# Altium schematic symbol library F.Schlib: 1 symbol
Pins are listed as number, name and electrical type; pins without a type are passive.

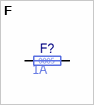
[diagram p0: symbol F]

## F
designator F?  Hold Current: 1A  Case/Package: 0805  (hidden comment: F)
Fuse
pins: 1, 2
1 alternate drawing of the same symbol